# Altium schematic symbol library Cap 1000uF_16V.Schlib: 1 symbol
Pins are listed as number, name and electrical type; pins without a type are passive.

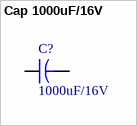
[diagram p0: symbol Cap 1000uF/16V]

## Cap 1000uF/16V
designator C?, comment 1000uF/16V
Electrolytic capacitor
pins: 1, 2